# Altium schematic symbol library FlexCube_Matrix_4x4 Schlib.SchLib: 5 symbols
Pins are listed as number, name and electrical type; pins without a type are passive.

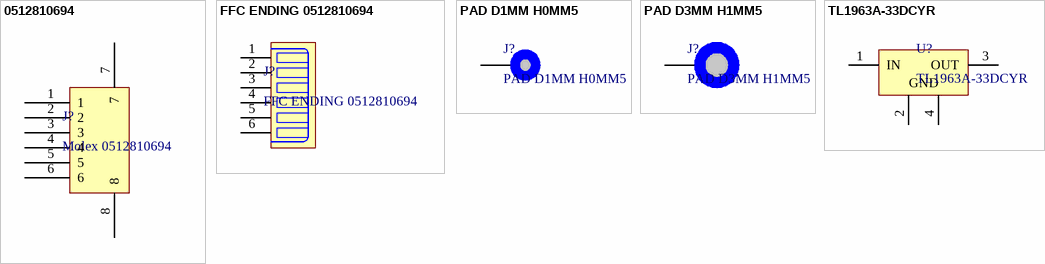
[diagram p0: symbols 0512810694 to TL1963A-33DCYR]

## 0512810694
designator J?, comment Molex 0512810694
Conn FPC Connector SKT 6 POS 0.5mm Solder RA SMD Easy-On™ Embossed T/R; Current Rating: 500mA; Voltage Rating: 50V; Contact Resistance: 20mR; Number of Positions: 6; Wire/Cable Type: Straight; .Creator: RF; Supplier 1: Digi-Key; Supplier Part Number 1: WM10922DKR-ND; Manufacturer: Molex; Manufacturer Part Number: 0512810694; Stock 1: 21985; Pricing 1: 1=0.54, 10=0.507, 25=0.456, 50=0.4056, 100=0.3886, 250=0.3548, 500=0.33792, 1000=0.27878 (USD); Mount: Surface Mount; Contact Material: Bronze; Contact Plating: Gold; Housing Colour: Natural; Housing Material: Polymer; Min Operating Temperature: -20°C; Max Operating Temperature: 85°C; Package Quantity: 3000; Packaging: Tape and Reel; Number of Rows: 1; Termination: Solder; Number of Contacts: 6; Orientation: Right Angle; Length: 5.1mm; Pitch: 0.5mm; Depth: 3.75mm; Radiation Hardening: No; Flammability Rating: UL94 V-0; ComponentLink1URL: http://www.molex.com/pdm_docs/sd/512810694_sd.pdf; ComponentLink1Description: http://www.molex.com/pdm_docs/sd/512810694_sd.pdf; ComponentLink2URL: http://www.molex.com/webdocs/datasheets/pdf/en-us/0512810694_FFC_FPC_CONNECTORS.pdf; ComponentLink2Description: http://www.molex.com/webdocs/datasheets/pdf/en-us/0512810694_FFC_FPC_CONNECTORS.pdf; ComponentLink3URL: https://www.verical.com/server-webapp/html/getDatasheet?partID=195210; ComponentLink3Description: https://www.verical.com/server-webapp/html/getDatasheet?partID=195210; Category: Connectors, Interconnects; Parameter 1: *
footprint 0512810694
pins: 1, 2, 3, 4, 5, 6, 7, 8

## FFC ENDING 0512810694
designator J?  (no BOM)
footprint FFC_ENDING_0512810694
pins: 1, 2, 3, 4, 5, 6

## PAD D1MM H0MM5
designator J?  (no BOM)
footprint PAD_D1MM_H0MM5
pins: 1

## PAD D3MM H1MM5
designator J?  (no BOM)
footprint PAD_D3MM_H1MM5
pins: 1

## TL1963A-33DCYR
designator U?
IC REG LDO 3.3V 1.5A SOT223; Manufacturer: Texas Instruments; Number of Outputs: 1; Dropout Voltage: 340mV; Max Input Voltage: 20V; Min Input Voltage: 2.1V; Input Bias Current: 1mA; Min Current Limit: 1.6A; Polarity: Positive; Accuracy: 3%; Output Type: Fixed; Supplier 1: Digi-Key; Manufacturer Part Number: TL1963A-33DCYR; RoHS: Yes; Stock 1: 24185; Pricing 1: 1 = 2.94000, 10 = 2.64200, 100 = 2.12370, 500 = 1.74482, 1000 = 1.44571 (USD); Case/Package: SOT-223; Number of Pins: 4; Contact Plating: Tin; Min Operating Temperature: -40°C; Max Operating Temperature: 125°C; Nominal Output Voltage: 3.3V; Packaging: Tape and Reel; Output Voltage: 3.3V; Output Current: 1.5A; Package Quantity: 1; Max Output Current: 1.5A; Number of Regulators: 1; Min Output Voltage: 3.3V; Quiescent Current: 1mA; Max Output Voltage: 3.3V; Radiation Hardening: No; REACH SVHC: No SVHC; Lead Free: Lead Free; ComponentLink1URL: http://www.mouser.com/ds/2/405/slvs719g-522148.pdf; ComponentLink1Description: http://www.mouser.com/ds/2/405/slvs719g-522148.pdf; ComponentLink2URL: http://www.ti.com/lit/ds/symlink/tl1963a.pdf; ComponentLink2Description: http://www.ti.com/lit/ds/symlink/tl1963a.pdf; ComponentLink3URL: http://www.farnell.com/datasheets/1882025.pdf; ComponentLink3Description: http://www.farnell.com/datasheets/1882025.pdf; ComponentLink4URL: http://www.farnell.com/datasheets/2001646.pdf; ComponentLink4Description: http://www.farnell.com/datasheets/2001646.pdf; Supplier Part Number 1: 296-24897-1-ND
footprint DCY0004A_N (SOT223, 4-Leads, Body 6.7x3.7mm, Pitch 2.3mm, IPC Medium Density)
pins: 1 IN (power) "Input. Power is supplied to the device through the IN pin. A bypass capacitor is required on this pin if the device is more than six inches away from the main input filter capacitor. In general, the output impedance of a (See Datasheet)", 2 GND (power) "Ground", 3 OUT (power) "Output. The output supplies power to the load. A minimum output capacitor (ceramic) of 10 uF is required to prevent oscillations. Larger output capacitors are required for applications with large transient loads to limit (See Datasheet)", 4 GND (power) "Ground"